# Altium schematic symbol library Resistor.SchLib: 30 symbols
Pins are listed as number, name and electrical type; pins without a type are passive.

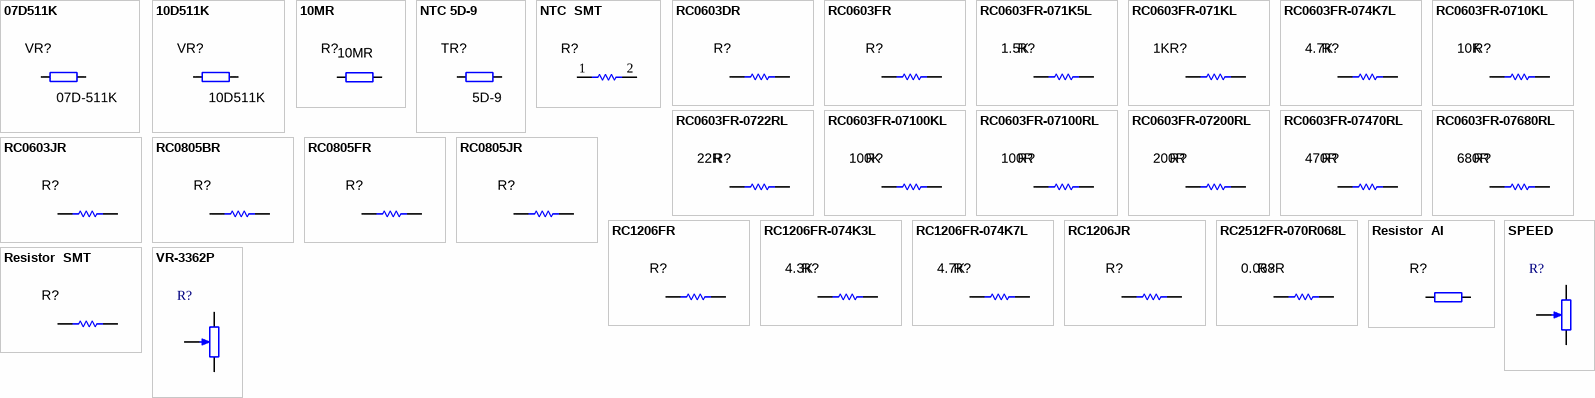
[diagram p0: symbols 07D511K to VR-3362P]

## 07D511K
designator VR?, comment 07D-511K
Resistor Varistor; Max voltage: 320V; Series: Resistor; Size: 07D; Mount type: AI; Value: 07D-511K
footprint 07D
pins: 1, 2

## 10D511K
designator VR?
Resistor Varistor; Max voltage: 320V; Series: Resistor; Size: 10D; Mount type: AI; Value: 10D511K
footprint 10D
pins: 1, 2

## 10MR
designator R?
Resistor; Series: Resistor; Mount type: AI; Res ohm: 10MR
footprint RES-10mm
pins: 1, 2

## NTC 5D-9
designator TR?, comment 5D-9
Resistor NTC; Res ohm: 5; Max current: 3A; Series: Resistor; Size: NTC-D9; Mount type: AI; Value: 5D-9
footprint D-9
pins: 1, 2

## NTC  SMT
designator R?
Resistor  1%; Manufacturer: muRata; Res ohm: ?ohm; Power rating: ?W; Series: Resistor; Tolerance: 1%; Mount type: SMT
footprint 0603R R1
footprint 0603R R2
footprint 0805R
pins: 1, 2

## RC0603DR
designator R?
Resistor  0.5%; Manufacturer: YAGEO; Series: Resistor; Size: 0603; Tolerance: 0.5%; Mount type: SMT
footprint 0603R R1
footprint 0603R R2
pins: 1, 2

## RC0603FR
designator R?
Resistor  1%; Manufacturer: YAGEO; Series: Resistor; Size: 0603; Tolerance: 1%; Mount type: SMT
footprint 0603R R1
footprint 0603R R2
pins: 1, 2

## RC0603FR-071K5L
designator R?  Res ohm: 1.5K
Resistor  1%; Global part number: RC0603FR-071K5L; Manufacturer: YAGEO; Series: Resistor; Size: 0603; Tolerance: 1%; Mount type: SMT
footprint 0603R R1
footprint 0603R R2
pins: 1, 2

## RC0603FR-071KL
designator R?  Res ohm: 1K
Resistor  1%; Global part number: RC0603FR-071KL; Manufacturer: YAGEO; Series: Resistor; Size: 0603; Tolerance: 1%; Mount type: SMT
footprint 0603R R1
footprint 0603R R2
pins: 1, 2

## RC0603FR-074K7L
designator R?  Res ohm: 4.7K
Resistor  1%; Global part number: RC0603FR-074K7L; Manufacturer: YAGEO; Series: Resistor; Size: 0603; Tolerance: 1%; Mount type: SMT
footprint 0603R R1
footprint 0603R R2
pins: 1, 2

## RC0603FR-0710KL
designator R?  Res ohm: 10K
Resistor  1%; Global part number: RC0603FR-0710KL; Manufacturer: YAGEO; Series: Resistor; Size: 0603; Tolerance: 1%; Mount type: SMT
footprint 0603R R1
footprint 0603R R2
pins: 1, 2

## RC0603FR-0722RL
designator R?  Res ohm: 22R
Resistor  1%; Global part number: RC0603FR-0722RL; Manufacturer: YAGEO; Series: Resistor; Size: 0603; Tolerance: 1%; Mount type: SMT
footprint 0603R R1
footprint 0603R R2
pins: 1, 2

## RC0603FR-07100KL
designator R?  Res ohm: 100K
Resistor  1%; Global part number: RC0603FR-07100KL; Manufacturer: YAGEO; Series: Resistor; Size: 0603; Tolerance: 1%; Mount type: SMT
footprint 0603R R1
footprint 0603R R2
pins: 1, 2

## RC0603FR-07100RL
designator R?  Res ohm: 100R
Resistor  1%; Global part number: RC0603FR-07100RL; Manufacturer: YAGEO; Series: Resistor; Size: 0603; Tolerance: 1%; Mount type: SMT
footprint 0603R R1
footprint 0603R R2
pins: 1, 2

## RC0603FR-07200RL
designator R?  Res ohm: 200R
Resistor  1%; Global part number: RC0603FR-07200RL; Manufacturer: YAGEO; Series: Resistor; Size: 0603; Tolerance: 1%; Mount type: SMT
footprint 0603R R1
footprint 0603R R2
pins: 1, 2

## RC0603FR-07470RL
designator R?  Res ohm: 470R
Resistor  1%; Global part number: RC0603FR-07470RL; Manufacturer: YAGEO; Series: Resistor; Size: 0603; Tolerance: 1%; Mount type: SMT
footprint 0603R R1
footprint 0603R R2
pins: 1, 2

## RC0603FR-07680RL
designator R?  Res ohm: 680R
Resistor  1%; Global part number: RC0603FR-07680RL; Manufacturer: YAGEO; Series: Resistor; Size: 0603; Tolerance: 1%; Mount type: SMT
footprint 0603R R1
footprint 0603R R2
pins: 1, 2

## RC0603JR
designator R?
Resistor  5%; Manufacturer: YAGEO; Series: Resistor; Size: 0603; Tolerance: 5%; Mount type: SMT
footprint 0603R R1
footprint 0603R R2
pins: 1, 2

## RC0805BR
designator R?
Resistor  0.1%; Manufacturer: YAGEO; Series: Resistor; Size: 0805; Tolerance: 0.1%; Mount type: SMT
footprint 0805R R1
footprint 0805R R2
pins: 1, 2

## RC0805FR
designator R?
Resistor  1%; Manufacturer: YAGEO; Series: Resistor; Size: 0805; Tolerance: 1%; Mount type: SMT
footprint 0805R R1
footprint 0805R R2
pins: 1, 2

## RC0805JR
designator R?
Resistor  5%; Manufacturer: YAGEO; Series: Resistor; Size: 0805; Tolerance: 5%; Mount type: SMT
footprint 0805R R1
footprint 0805R R2
pins: 1, 2

## RC1206FR
designator R?
Resistor  1%; Manufacturer: YAGEO; Series: Resistor; Size: 1206; Tolerance: 1%; Mount type: SMT
footprint 1206R R1
footprint 1206R R2
pins: 1, 2

## RC1206FR-074K3L
designator R?  Res ohm: 4.3K
Resistor  1%; Global part number: RC1206FR-074K3L; Manufacturer: YAGEO; Series: Resistor; Size: 1206; Tolerance: 1%; Mount type: SMT
footprint 1206R R1
footprint 1206R R2
pins: 1, 2

## RC1206FR-074K7L
designator R?  Res ohm: 4.7K
Resistor  1%; Global part number: RC1206FR-074K7L; Manufacturer: YAGEO; Series: Resistor; Size: 1206; Tolerance: 1%; Mount type: SMT
footprint 1206R R1
footprint 1206R R2
pins: 1, 2

## RC1206JR
designator R?
Resistor  1%; Manufacturer: YAGEO; Tolerance: 5%; Series: Resistor; Size: 1206; Mount type: SMT
footprint 1206R R1
footprint 1206R R2
pins: 1, 2

## RC2512FR-070R068L
designator R?  Res ohm: 0.068R
Resistor  1%; Global part number: RC2512FR-070R068L; Manufacturer: YAGEO; Series: Resistor; Size: 1206; Tolerance: 1%; Mount type: SMT
footprint 2512R R1
footprint 2512R R2
pins: 1, 2

## Resistor  AI
designator R?
Resistor  1%; Manufacturer: Vishay; Series: Resistor; Tolerance: 1%; Mount type: AI
footprint AXILAL 3WH
footprint AXIAL 1/4WW
footprint AXILAL 1WH
footprint AXILAL 2WH
pins: 1, 2

## Resistor  SMT
designator R?
Resistor  1%; Manufacturer: Vishay; Series: Resistor; Size: 0603; Tolerance: 1%; Mount type: SMT
footprint 0603R R1
footprint 0603R R2
footprint 0805R
footprint 1206R
footprint 1210R
footprint 2512R
pins: 1, 2

## SPEED
designator R?
Manufacturer: 3362P; Mount type: AI
footprint 3362P
pins: 1, 2, 3

## VR-3362P
designator R?
Manufacturer: 3362P; Mount type: AI
footprint VR-3362P (Feed-Through Capacitor; 3 Leads)
pins: 1, 2, 3